# EAGLE library part 25LC1024X-X/SM (library 3DPOV)
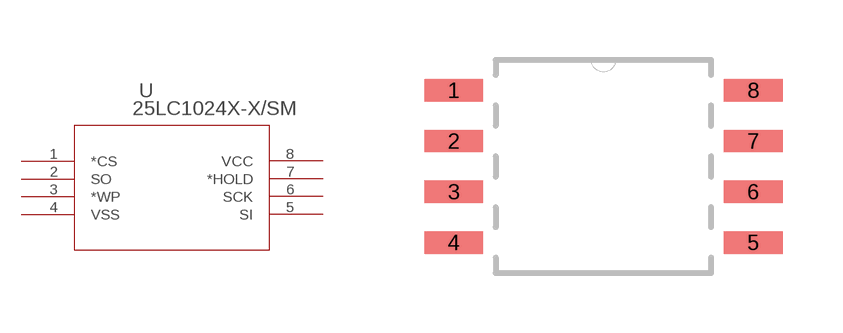
[diagram p2: symbol with the pads of SOIJ8-M_MC; footprint SOIJ8-M_MC]

Designator prefix -

## 25LC1024X-X/SM  [SOIJ8-M_MC]
1  *CS  pas
2  SO  pas
3  *WP  pas
4  VSS  pas
5  SI  pas
6  SCK  pas
7  *HOLD  pas
8  VCC  pas

## Footprint SOIJ8-M_MC (pad centres in mm)
smd 1.473 x 0.559: 1 -3.747,1.905; 2 -3.747,0.635; 3 -3.747,-0.635; 4 -3.747,-1.905; 5 3.747,-1.905; 6 3.747,-0.635; 7 3.747,0.635; 8 3.747,1.905